# Altium schematic symbol library Schlib.SchLib: 2 symbols
Pins are listed as number, name and electrical type; pins without a type are passive.

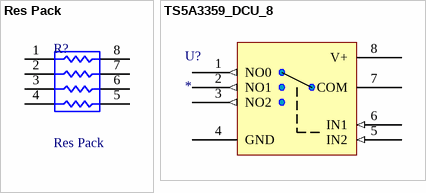
[diagram p0: symbols Res Pack to TS5A3359_DCU_8]

## Res Pack
designator R?
Isolated Resistor Network; Published: 24-Mar-1999; LatestRevisionDate: 29-May-2009; LatestRevisionNote: IPC-7351 Footprint Added.; PackageReference: SO-16; Publisher: Altium Limited; PackageDescription: 16-Pin Small Outline Integrated Circuit 1.27 mm Pitch; Code_JEDEC: MS-012-AC; Code_IPC: SOIC127P600-16
footprint EXBV8V (Chip Resistor Array, (0603x4); SM; 8 Leads; Body 3.40 x 1.80 mm (LxW max))
pins: 1, 2, 3, 4, 5, 6, 7, 8

## TS5A3359_DCU_8
designator U?
Imported; Manufacturer_Part_Number: ts5a3359_dcu_8; GENERIC_PART_NUMBER: TS5A3359; Vendor: Texas Instruments; PACKAGE_DESIGNATOR: DCU; PIN_COUNT: 8; FAMILY_NAME: ANALOG SWITCH OR MULTIPLEXER (less than or equal to 5V); INDUSTRY_STD_PKG_TYPE: US8; Datasheet URL: http://www.ti.com/lit/gpn/TS5A3359; Manufacturer: Texas Instruments; RefDes: RefDes; Type: DEV; Value: Value
footprint DCU8
pins: 1 NO0 (out), 2 NO1 (out), 3 NO2 (out), 4 GND (power), 5 IN2 (in), 6 IN1 (in), 7 COM, 8 V+ (power)